# EAGLE library part PAM8302A (library pimoroni)
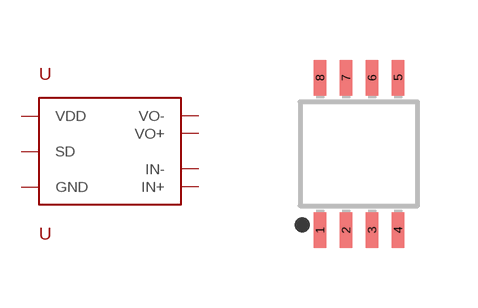
[diagram p35: symbol with the pads of PAM8302A; footprint PAM8302A]

Designator prefix -

## PAM8302A-MSOP8  [PAM8302A]
1  SD
3  IN+
4  IN-
5  VO+
6  VDD
7  GND
8  VO-

## Footprint PAM8302A (pad centres in mm)
smd 0.305 x 0.889: 1 -1.3,-1.409; 2 -0.65,-1.409; 3 0,-1.409; 4 0.65,-1.409; 5 0.65,2.409; 6 0,2.409; 7 -0.65,2.409; 8 -1.3,2.409